# EAGLE library part СНП391-56В (library connectors)
РЮМК.430420.036 ТУ Соединитель электрический прямоугольный типа СНП391 (вилка) предназначен для работы в электрических цепях постоянного, переменного и импульсного токов в радиоэлектронной аппаратуре специального и общепромышленного назначения. Технические условия ОТК: РЮМК.430420.049 ТУ Технические условия ВП: РЮМК.430420.036 ТУ Производитель: АО «Карачевский завод "Электродеталь" 242500 Брянская область, г. Карачев, ул. Горького, 1
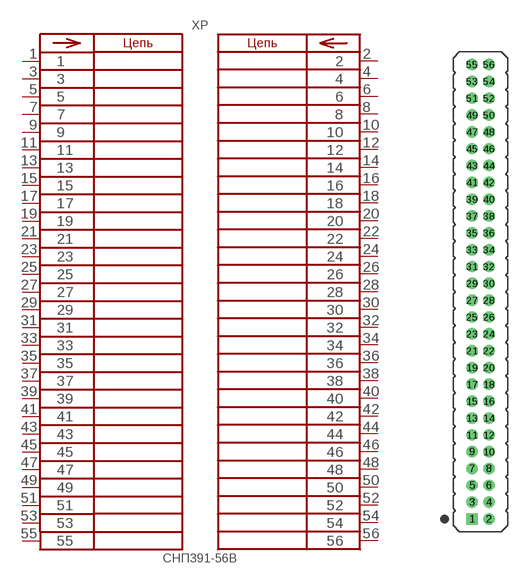
[diagram p12: symbol with the pads of СНП391-56(вилка,прямой,2-рядный); footprint СНП391-56(вилка,прямой,2-рядный)]

Designator prefix XP

## СНП391-56ВП21-2  [СНП391-56(вилка,прямой,2-рядный)]
1  1  pas
2  2  pas
3  3  pas
4  4  pas
5  5  pas
6  6  pas
7  7  pas
8  8  pas
9  9  pas
10  10  pas
11  11  pas
12  12  pas
13  13  pas
14  14  pas
15  15  pas
16  16  pas
17  17  pas
18  18  pas
19  19  pas
20  20  pas
21  21  pas
22  22  pas
23  23  pas
24  24  pas
25  25  pas
26  26  pas
27  27  pas
28  28  pas
29  29  pas
30  30  pas
31  31  pas
32  32  pas
33  33  pas
34  34  pas
35  35  pas
36  36  pas
37  37  pas
38  38  pas
39  39  pas
40  40  pas
41  41  pas
42  42  pas
43  43  pas
44  44  pas
45  45  pas
46  46  pas
47  47  pas
48  48  pas
49  49  pas
50  50  pas
51  51  pas
52  52  pas
53  53  pas
54  54  pas
55  55  pas
56  56  pas

## Footprint СНП391-56(вилка,прямой,2-рядный) (pad centres in mm)
drill 0.35 square: 1 -0.635,-17.145
drill 0.35: 2 0.635,-17.145; 3 -0.635,-15.875; 4 0.635,-15.875; 5 -0.635,-14.605; 6 0.635,-14.605; 7 -0.635,-13.335; 8 0.635,-13.335; 9 -0.635,-12.065; 10 0.635,-12.065; 11 -0.635,-10.795; 12 0.635,-10.795; 13 -0.635,-9.525; 14 0.635,-9.525; 15 -0.635,-8.255; 16 0.635,-8.255; 17 -0.635,-6.985; 18 0.635,-6.985; 19 -0.635,-5.715; 20 0.635,-5.715; 21 -0.635,-4.445; 22 0.635,-4.445; 23 -0.635,-3.175; 24 0.635,-3.175; 25 -0.635,-1.905; 26 0.635,-1.905; 27 -0.635,-0.635; 28 0.635,-0.635; 29 -0.635,0.635; 30 0.635,0.635; 31 -0.635,1.905; 32 0.635,1.905; 33 -0.635,3.175; 34 0.635,3.175; 35 -0.635,4.445; 36 0.635,4.445; 37 -0.635,5.715; 38 0.635,5.715; 39 -0.635,6.985; 40 0.635,6.985; 41 -0.635,8.255; 42 0.635,8.255; 43 -0.635,9.525; 44 0.635,9.525; 45 -0.635,10.795; 46 0.635,10.795; 47 -0.635,12.065; 48 0.635,12.065; 49 -0.635,13.335; 50 0.635,13.335; 51 -0.635,14.605; 52 0.635,14.605; 53 -0.635,15.875; 54 0.635,15.875; 55 -0.635,17.145; 56 0.635,17.145